# Altium schematic symbol library TPS2836.Schlib: 1 symbol
Pins are listed as number, name and electrical type; pins without a type are passive.

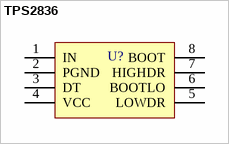
[diagram p0: symbol TPS2836]

## TPS2836
designator U?, comment Syncronous-buck MOSFET DRIVER WITH DEAD-TIME CONTROL  (value not drawn)
pins: 1 IN, 2 PGND, 3 DT, 4 VCC, 5 LOWDR, 6 BOOTLO, 7 HIGHDR, 8 BOOT